# Altium footprint library Header_Amphenol_FCI_71922-116LF_16POS.PcbLib: 1 footprints
Each footprint in its own frame and in the unit in brackets; x right, y up, seen from the top. Pads: shape width x height; smd on the part's side, far side on the other; paste and mask are expansions set on the pad; w line width, h text height; cw(c..) or ccw(c..) is an arc to the next point about the centre after c.
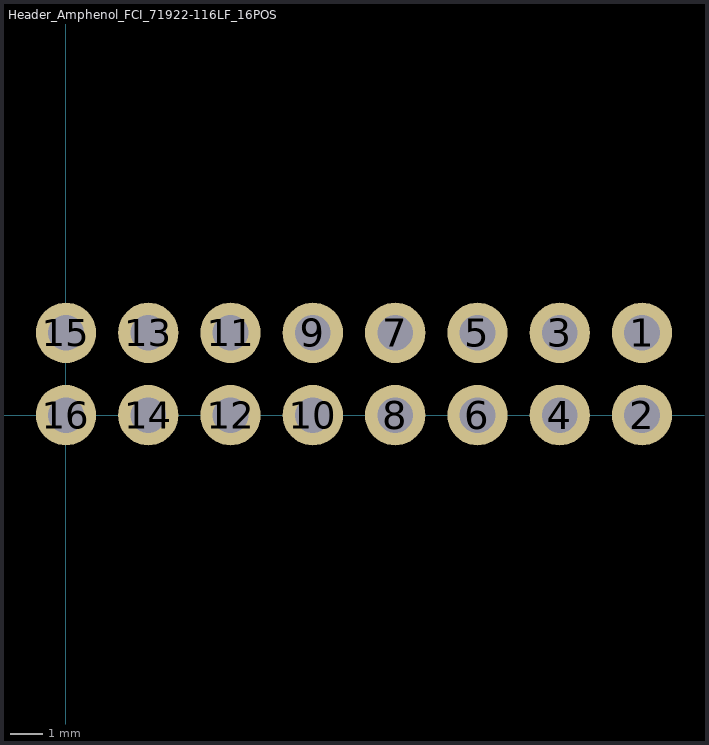
[diagram p0: the footprint, top view; thin cyan lines are the x and y axes]

## Header_Amphenol_FCI_71922-116LF_16POS [mm]
pads (16):
  round 1.862 hole 1.1: 1(17.78,2.54) 2(17.78,0) 3(15.24,2.54) 4(15.24,0) 5(12.7,2.54) 6(12.7,0) 7(10.16,2.54) 8(10.16,0) 9(7.62,2.54) 10(7.62,0) 11(5.08,2.54) 12(5.08,0) 13(2.54,2.54) 14(2.54,0) 15(0,2.54) 16(0,0)
3D body "71922_y16_asm.stp": height 8.8, standoff -2.62, extent -10.93,-1.33 28.69,25.468